# Altium footprint library SON-8_5x6.PcbLib: 1 footprints
Each footprint in its own frame and in the unit in brackets; x right, y up, seen from the top. Pads: shape width x height; smd on the part's side, far side on the other; paste and mask are expansions set on the pad; w line width, h text height; cw(c..) or ccw(c..) is an arc to the next point about the centre after c.
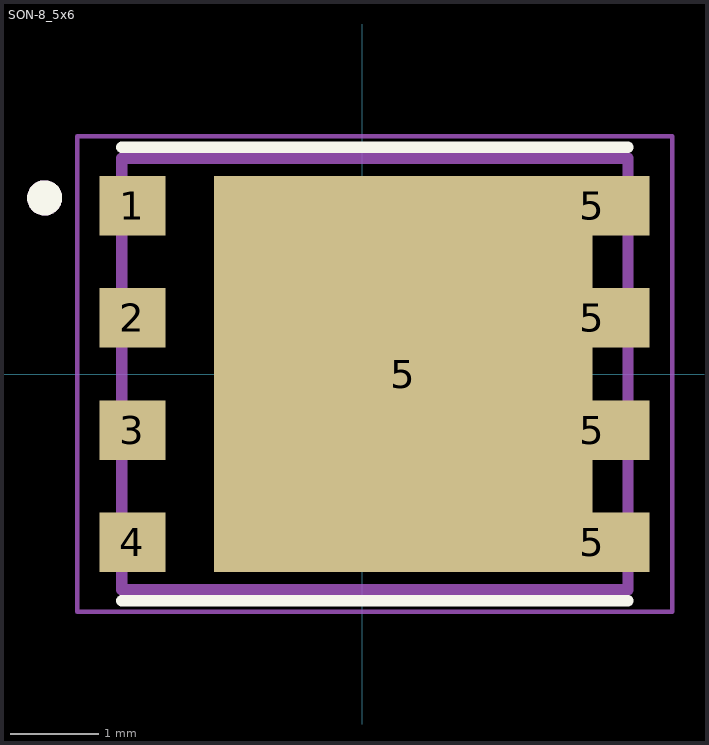
[diagram p0: the footprint, top view; thin cyan lines are the x and y axes]

## SON-8_5x6 [mm]
pads (9):
  rect 0.75x0.675 smd paste-1: 1(-2.612,1.913) 2(-2.612,0.638) 3(-2.612,-0.637) 4(-2.612,-1.912)
  rect 4.3x4.5 smd paste-2539.97: 5(0.463,0)
  rect 1.3x0.675 smd paste-1: 5(2.613,-1.912) 5(2.613,-0.637) 5(2.613,0.638) 5(2.613,1.913)
Top Overlay:
  circle w0.2: c-3.61,2 r0.1
  lines w0.127: -2.735,-2.575 3.015,-2.575 ; -2.735,2.575 3.015,2.575
Top Paste:
  region: -0.04,0.31 -1.275,0.31 -1.275,1.88 -0.04,1.88
  region: 2.172,-2.055 0.587,-2.055 0.587,-0.485 2.172,-0.485
  region: -0.04,-1.88 -1.275,-1.88 -1.275,-0.31 -0.04,-0.31
  region: 2.045,0.31 0.46,0.31 0.46,1.88 2.045,1.88
  region: -2.38,1.655 -2.88,1.655 -2.88,2.155 -2.38,2.155
  region: -2.38,0.385 -2.88,0.385 -2.88,0.885 -2.38,0.885
  region: -2.38,-2.155 -2.88,-2.155 -2.88,-1.655 -2.38,-1.655
  region: -2.38,-0.885 -2.88,-0.885 -2.88,-0.385 -2.38,-0.385
  region: 3.16,1.655 2.66,1.655 2.66,2.155 3.16,2.155
  region: 3.16,0.385 2.66,0.385 2.66,0.885 3.16,0.885
  region: 3.16,-2.155 2.66,-2.155 2.66,-1.655 3.16,-1.655
  region: 3.16,-0.885 2.66,-0.885 2.66,-0.385 3.16,-0.385
Mechanical 13:
  circle w0.2: c-3.61,2 r0.1
  lines w0.127: -2.735,-2.45 -2.735,2.45 3.015,2.45 3.015,-2.45 -2.735,-2.45
Mechanical 15:
  lines w0.05: -3.237,-2.7 3.517,-2.7 3.517,2.7 -3.237,2.7 -3.237,-2.7
3D body "step_temp.STEP": height 1.1, standoff 0, extent -2.86,-2.45 3.14,2.45